# Altium schematic symbol library Mechanical_Connectors_Modular_GOST.SchLib: 4 symbols
Pins are listed as number, name and electrical type; pins without a type are passive.

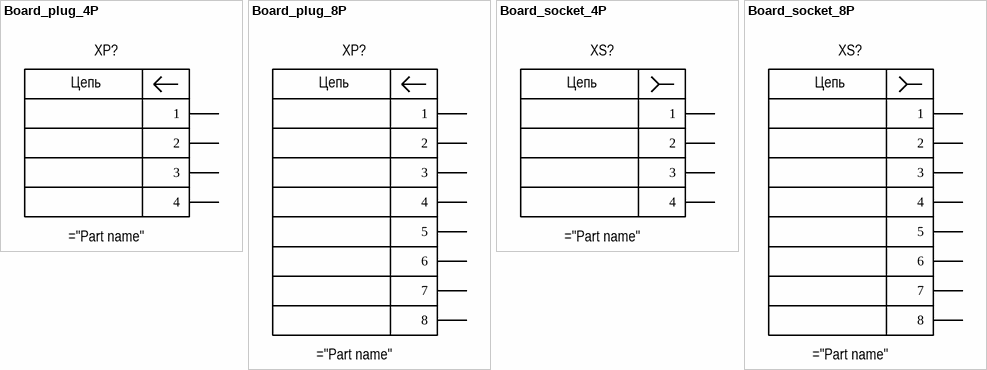
[diagram p0: symbols Board_plug_4P to Board_socket_8P]

## Board_plug_4P
designator XP?
pins: 1, 2, 3, 4
text: Цепь

## Board_plug_8P
designator XP?
pins: 1, 2, 3, 4, 5, 6, 7, 8
text: Цепь

## Board_socket_4P
designator XS?
pins: 1, 2, 3, 4
text: Цепь

## Board_socket_8P
designator XS?
pins: 1, 2, 3, 4, 5, 6, 7, 8
text: Цепь